# EAGLE library part HOLDER-MICROSD-9P (library Elecrow_Connector)
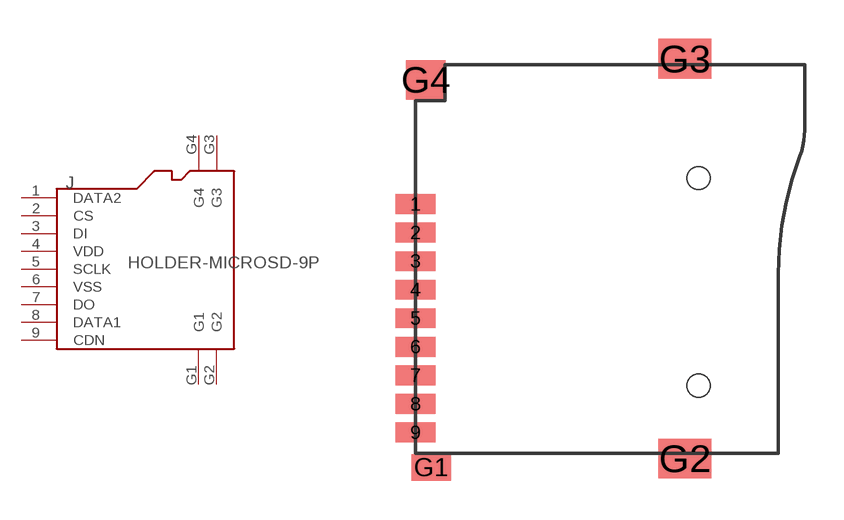
[diagram p8: symbol with the pads of 9P-SMD-W/-RING; footprint 9P-SMD-W/-RING]

Designator prefix J

## HOLDER-MICROSD-9P  [9P-SMD-W/-RING]
1  DATA2
2  CS
3  DI
4  VDD
5  SCLK
6  VSS
7  DO
8  DATA1
9  CDN
G1  G1
G2  G2
G3  G3
G4  G4

## Footprint 9P-SMD-W/-RING (pad centres in mm)
smd 1.524 x 0.762: 1 0,4.4; 2 0,3.3; 3 0,2.2; 4 0,1.1; 5 0,0; 6 0,-1.1; 7 0,-2.2; 8 0,-3.3; 9 0,-4.4
smd 1.524 x 1.016: G1 0.6,-5.746
smd 2.032 x 1.524: G2 10.373,-5.4; G3 10.373,10
smd 1.524 x 1.524: G4 0.392,9.181
hole 0.889 at 10.9,-2.6
hole 0.889 at 10.9,5.4